# Altium schematic symbol library BSS214NWH6327XTSA1 NMOS.SchLib: 1 symbol
Pins are listed as number, name and electrical type; pins without a type are passive.

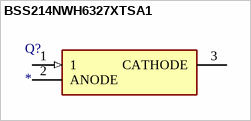
[diagram p0: symbol BSS214NWH6327XTSA1]

## BSS214NWH6327XTSA1
designator Q?
Transistor; Manufacturer_Name: Infineon; Manufacturer_Part_Number: BSS214NWH6327XTSA1; Description: Infineon,Trans BSS214NWH6327XTSA1 Infineon BSS214NWH6327XTSA1 N-channel MOSFET Transistor; Datasheet Link: http://www.mouser.com/ds/2/196/BSS214NW_Rev2.2-359325.pdf; Height: 1mm; Mouser Part Number: 726-BSS214NWH6327XTS; Mouser Price/Stock: https://www.mouser.co.uk/ProductDetail/Infineon-Technologies/BSS214NWH6327XTSA1?qs=Dj8dEyEphkMe%252Bfnz0ZE2og%3D%3D; Arrow Part Number: BSS214NWH6327XTSA1; Arrow Price/Stock: https://www.arrow.com/en/products/bss214nwh6327xtsa1/infineon-technologies-ag?region=nac
footprint SOT65P210X100-3N
pins: 1 (in), 2 ANODE, 3 CATHODE